# EAGLE library part POCKETBEAGLE (library Project2)
Pocket Beagle board
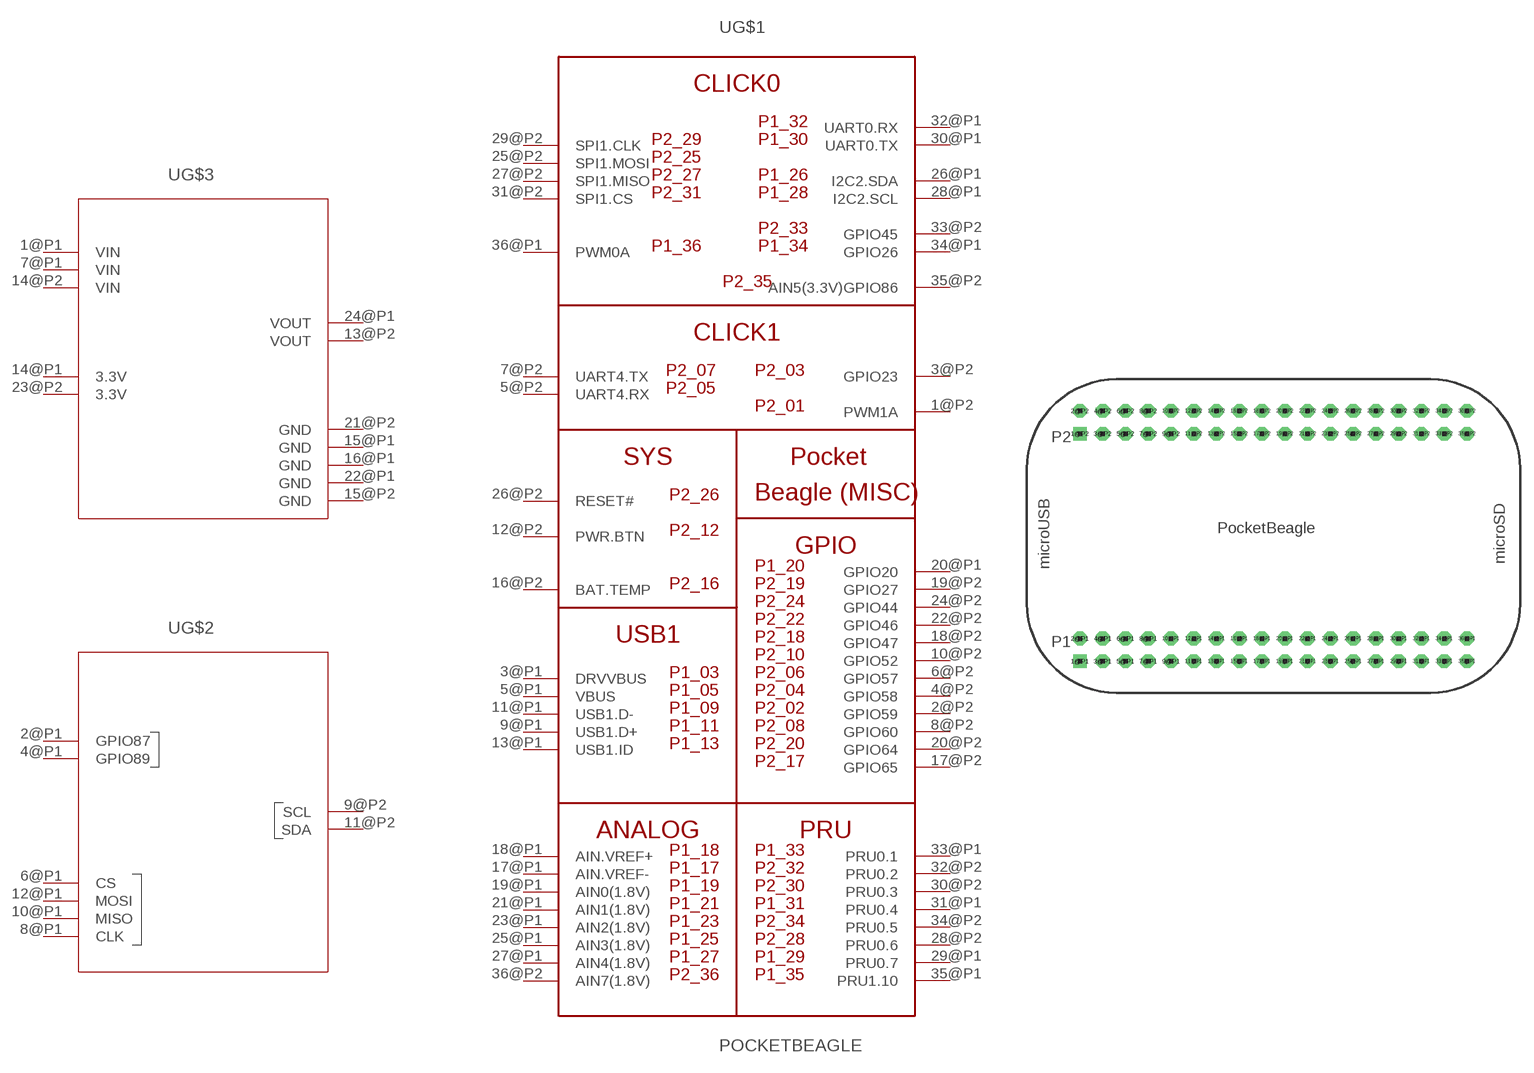
[diagram p5: symbol with the pads of POCKETBEAGLE; footprint POCKETBEAGLE]

Designator prefix -; gates G$2=POCKETBEAGLE_SIGNALS G$3=POCKETBEAGLE_PWR G$1=POCKETBEAGLE_MISC

## POCKETBEAGLE  [POCKETBEAGLE]
1@P1  G$3:VIN
1@P2  G$1:PWM1A
2@P1  G$2:GPIO87
2@P2  G$1:GPIO59
3@P1  G$1:DRVVBUS
3@P2  G$1:GPIO23
4@P1  G$2:GPIO89
4@P2  G$1:GPIO58
5@P1  G$1:VBUS
5@P2  G$1:UART4.RX
6@P1  G$2:CS
6@P2  G$1:GPIO57
7@P1  G$3:VIN
7@P2  G$1:UART4.TX
8@P1  G$2:CLK
8@P2  G$1:GPIO60
9@P1  G$1:USB1.D+
9@P2  G$2:SCL
10@P1  G$2:MISO
10@P2  G$1:GPIO52
11@P1  G$1:USB1.D-
11@P2  G$2:SDA
12@P1  G$2:MOSI
12@P2  G$1:PWR.BTN  in
13@P1  G$1:USB1.ID
13@P2  G$3:VOUT
14@P1  G$3:3.3V
14@P2  G$3:VIN
15@P1  G$3:GND
15@P2  G$3:GND
16@P1  G$3:GND
16@P2  G$1:BAT.TEMP  in
17@P1  G$1:AIN.VREF-  in
17@P2  G$1:GPIO65
18@P1  G$1:AIN.VREF+  in
18@P2  G$1:GPIO47
19@P1  G$1:AIN0(1.8V)  in
19@P2  G$1:GPIO27
20@P1  G$1:GPIO20
20@P2  G$1:GPIO64
21@P1  G$1:AIN1(1.8V)  in
21@P2  G$3:GND
22@P1  G$3:GND
22@P2  G$1:GPIO46
23@P1  G$1:AIN2(1.8V)  in
23@P2  G$3:3.3V
24@P1  G$3:VOUT
24@P2  G$1:GPIO44
25@P1  G$1:AIN3(1.8V)  in
25@P2  G$1:SPI1.MOSI
26@P1  G$1:I2C2.SDA
26@P2  G$1:RESET#  in
27@P1  G$1:AIN4(1.8V)  in
27@P2  G$1:SPI1.MISO
28@P1  G$1:I2C2.SCL
28@P2  G$1:PRU0.6
29@P1  G$1:PRU0.7
29@P2  G$1:SPI1.CLK
30@P1  G$1:UART0.TX
30@P2  G$1:PRU0.3
31@P1  G$1:PRU0.4
31@P2  G$1:SPI1.CS
32@P1  G$1:UART0.RX
32@P2  G$1:PRU0.2
33@P1  G$1:PRU0.1
33@P2  G$1:GPIO45
34@P1  G$1:GPIO26
34@P2  G$1:PRU0.5
35@P1  G$1:PRU1.10
35@P2  G$1:AIN5(3.3V)GPIO86
36@P1  G$1:PWM0A
36@P2  G$1:AIN7(1.8V)  in

## Footprint POCKETBEAGLE (pad centres in mm)
Package generated by make-group2pac.ulp from: C:/Users/hs65/Downloads/PocketBeagle.brd at: 4/26/2022 4:27 PM
drill 0.889 pad 1.524 square: 1@P1 5.91,3.53; 1@P2 5.91,28.93
drill 0.889 pad 1.524 octagon: 2@P1 5.91,6.07; 2@P2 5.91,31.47; 3@P1 8.45,3.53; 3@P2 8.45,28.93; 4@P1 8.45,6.07; 4@P2 8.45,31.47; 5@P1 10.99,3.53; 5@P2 10.99,28.93; 6@P1 10.99,6.07; 6@P2 10.99,31.47; 7@P1 13.53,3.53; 7@P2 13.53,28.93; 8@P1 13.53,6.07; 8@P2 13.53,31.47; 9@P1 16.07,3.53; 9@P2 16.07,28.93; 10@P1 16.07,6.07; 10@P2 16.07,31.47; 11@P1 18.61,3.53; 11@P2 18.61,28.93; 12@P1 18.61,6.07; 12@P2 18.61,31.47; 13@P1 21.15,3.53; 13@P2 21.15,28.93; 14@P1 21.15,6.07; 14@P2 21.15,31.47; 15@P1 23.69,3.53; 15@P2 23.69,28.93; 16@P1 23.69,6.07; 16@P2 23.69,31.47; 17@P1 26.23,3.53; 17@P2 26.23,28.93; 18@P1 26.23,6.07; 18@P2 26.23,31.47; 19@P1 28.77,3.53; 19@P2 28.77,28.93; 20@P1 28.77,6.07; 20@P2 28.77,31.47; 21@P1 31.31,3.53; 21@P2 31.31,28.93; 22@P1 31.31,6.07; 22@P2 31.31,31.47; 23@P1 33.85,3.53; 23@P2 33.85,28.93; 24@P1 33.85,6.07; 24@P2 33.85,31.47; 25@P1 36.39,3.53; 25@P2 36.39,28.93; 26@P1 36.39,6.07; 26@P2 36.39,31.47; 27@P1 38.93,3.53; 27@P2 38.93,28.93; 28@P1 38.93,6.07; 28@P2 38.93,31.47; 29@P1 41.47,3.53; 29@P2 41.47,28.93; 30@P1 41.47,6.07; 30@P2 41.47,31.47; 31@P1 44.01,3.53; 31@P2 44.01,28.93; 32@P1 44.01,6.07; 32@P2 44.01,31.47; 33@P1 46.55,3.53; 33@P2 46.55,28.93; 34@P1 46.55,6.07; 34@P2 46.55,31.47; 35@P1 49.09,3.53; 35@P2 49.09,28.93; 36@P1 49.09,6.07; 36@P2 49.09,31.47